# EAGLE library part LED-MATRIX (library tile)
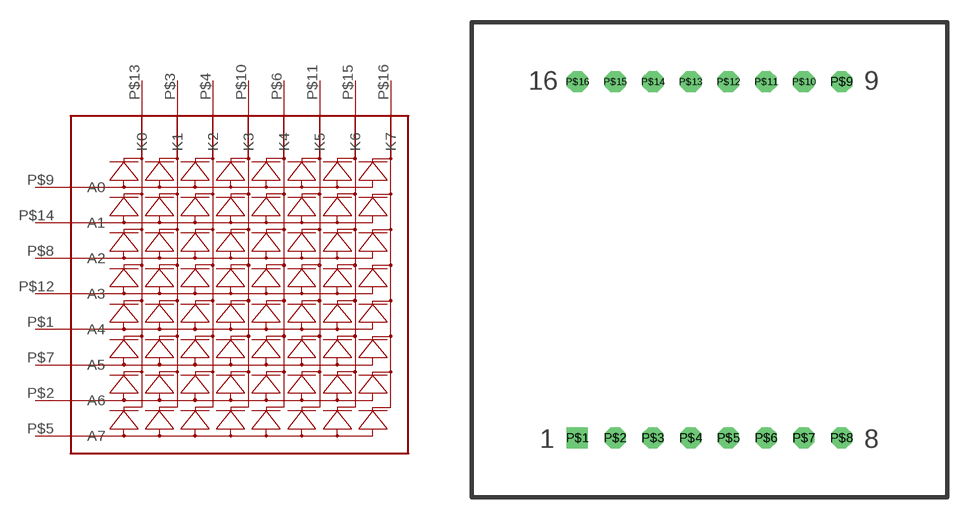
[diagram p0: symbol with the pads of LED-MATRIX; footprint LED-MATRIX]

Designator prefix -

## LED-MATRIX  [LED-MATRIX]
P$1  A4
P$2  A6
P$3  K1
P$4  K2
P$5  A7
P$6  K4
P$7  A5
P$8  A2
P$9  A0
P$10  K3
P$11  K5
P$12  A3
P$13  K0
P$14  A1
P$15  K6
P$16  K7

## Footprint LED-MATRIX (pad centres in mm)
drill 0.8 pad 1.422 square: P$1 7.11,4
drill 0.8 pad 1.422 octagon: P$2 9.65,4; P$3 12.19,4; P$4 14.73,4; P$5 17.27,4; P$6 19.81,4; P$7 22.35,4; P$8 24.89,4; P$9 24.89,28; P$10 22.35,28; P$11 19.81,28; P$12 17.27,28; P$13 14.73,28; P$14 12.19,28; P$15 9.65,28; P$16 7.11,28